# EAGLE library part AM7910 (library debauer_ics)
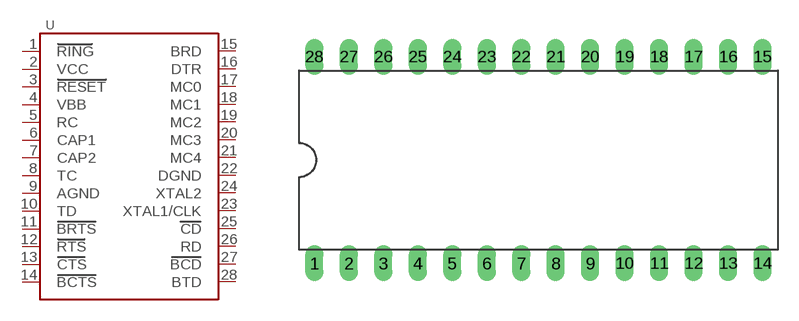
[diagram p45: symbol with the pads of DIL28-6; footprint DIL28-6]

Designator prefix -

## AM7910  [DIL28-6]
1  RING
2  VCC
3  RESET
4  VBB
5  RC
6  CAP1
7  CAP2
8  TC
9  AGND
10  TD
11  BRTS
12  RTS
13  CTS
14  BCTS
15  BRD
16  DTR
17  MC0
18  MC1
19  MC2
20  MC3
21  MC4
22  DGND
23  XTAL1/CLK
24  XTAL2
25  CD
26  RD
27  BCD
28  BTD

## Footprint DIL28-6 (pad centres in mm)
Dual In Line Package 0.6 inch
drill 0.813 long: 1 -16.51,-7.62; 2 -13.97,-7.62; 3 -11.43,-7.62; 4 -8.89,-7.62; 5 -6.35,-7.62; 6 -3.81,-7.62; 7 -1.27,-7.62; 8 1.27,-7.62; 9 3.81,-7.62; 10 6.35,-7.62; 11 8.89,-7.62; 12 11.43,-7.62; 13 13.97,-7.62; 14 16.51,-7.62; 15 16.51,7.62; 16 13.97,7.62; 17 11.43,7.62; 18 8.89,7.62; 19 6.35,7.62; 20 3.81,7.62; 21 1.27,7.62; 22 -1.27,7.62; 23 -3.81,7.62; 24 -6.35,7.62; 25 -8.89,7.62; 26 -11.43,7.62; 27 -13.97,7.62; 28 -16.51,7.62